# Altium schematic symbol library PowerSplitter.SchLib: 4 symbols
Pins are listed as number, name and electrical type; pins without a type are passive.

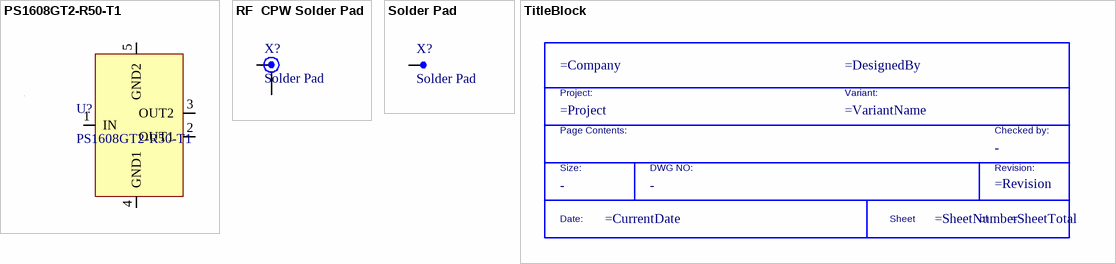
[diagram p0: symbols PS1608GT2-R50-T1 to TitleBlock]

## PS1608GT2-R50-T1
designator U?
Splitter, 0MHz Min, 20000MHz Max, 6dB Insertion Loss-Max; Manufacturer: Susumu; Characteristic Impedance: 50R; Operating Frequency-Max: 20GHz; VSWR-Max: 1.5; Supplier: Digikey; Supplier Part Number: 408-2049-1-ND; Manufacturer Part Number: PS1608GT2-R50-T1; RoHS: Yes; Category: Chip SMD Resistors; Stock: 9749; Pricing: 1=2.27, 10=1.571, 50=1.1856, 100=1.0413, 500=0.875 (USD); Terminal Finish: Tin; JESD-609 Code: e3; Construction: COMPONENT; Operating Frequency-Min: 0MHz; RF/Microwave Device Type: SPLITTER; Reach SVHC Compliant: Yes; RoHS Compliant: Yes; ComponentLink1URL: https://datasheet.ciiva.com:443/pdfs/VipMasterIC/IC/SUSU/SUSU-S-A0009163549/SUSU-S-A0009163549-1.pdf?src-supplier=IHS+Markit; ComponentLink1Description: https://datasheet.ciiva.com:443/pdfs/VipMasterIC/IC/SUSU/SUSU-S-A0009163549/SUSU-S-A0009163549-1.pdf?src-supplier=IHS+Markit; ComponentLink2URL: http://www.susumu.co.jp/common/pdf/n_catalog_partition31_en.pdf?src-supplier=Digikey; ComponentLink2Description: http://www.susumu.co.jp/common/pdf/n_catalog_partition31_en.pdf?src-supplier=Digikey
footprint PS1608GT2R50T1
footprint 3PS1608GT2R50T1
footprint PS1608GT2-R50-T1
pins: 1 IN, 2 OUT1, 3 OUT2, 4 GND1, 5 GND2

## RF  CPW Solder Pad
designator X?, comment Solder Pad
Solder pad for RF Coplanar Waveguide Rogers 4350B Thickness 0.020" Copper 1oz
footprint CPW Edge Connector
pins: 1, 2, 3

## Solder Pad
designator X?
Pad to solder wires to
footprint Solder Pad
pins: 1

## TitleBlock
designator *  (value not drawn)  (graphical)
Standard Title Block; DWG NO: -; Size: -; Checked by: -
text: Project:; Variant:; Page Contents:; Checked by:; Size:; DWG NO:; Revision:; Date:; Sheet; of